# EAGLE library part PCA9671D (library NXP)
Remote 16-bit I/O expander for Fm+ I2C-bus with reset
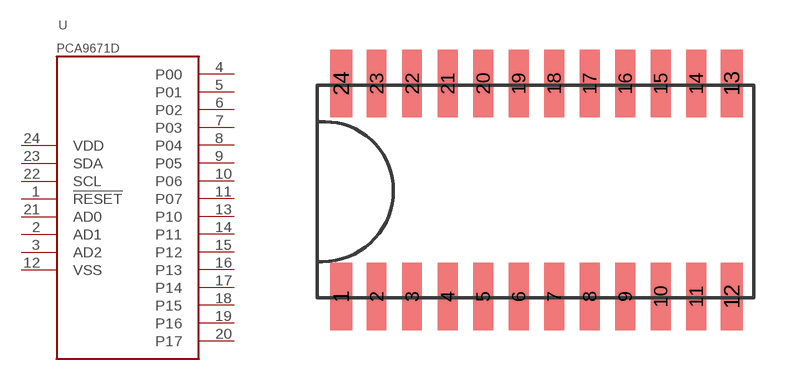
[diagram p2: symbol with the pads of SOT137-1; footprint SOT137-1]

Designator prefix -

## PCA9671D  [SOT137-1]
1  !RESET
2  AD1
3  AD2
4  P00
5  P01
6  P02
7  P03
8  P04
9  P05
10  P06
11  P07
12  VSS
13  P10
14  P11
15  P12
16  P13
17  P14
18  P15
19  P16
20  P17
21  AD0
22  SCL
23  SDA
24  VDD

## Footprint SOT137-1 (pad centres in mm)
smd 0.8 x 2.4: 1 -6.95,-3.75; 12 7.02,-3.75; 13 7.02,3.87; 24 -6.95,3.87
smd 0.7 x 2.4: 2 -5.68,-3.75; 3 -4.41,-3.75; 4 -3.14,-3.75; 5 -1.87,-3.75; 6 -0.6,-3.75; 7 0.67,-3.75; 8 1.94,-3.75; 9 3.21,-3.75; 10 4.48,-3.75; 11 5.75,-3.75; 14 5.75,3.87; 15 4.48,3.87; 16 3.21,3.87; 17 1.94,3.87; 18 0.67,3.87; 19 -0.6,3.87; 20 -1.87,3.87; 21 -3.14,3.87; 22 -4.41,3.87; 23 -5.68,3.87